# EAGLE library part RASPI_GPIO_B+ (library raspberrypi)
Only the 2x20 header connector, nothing else
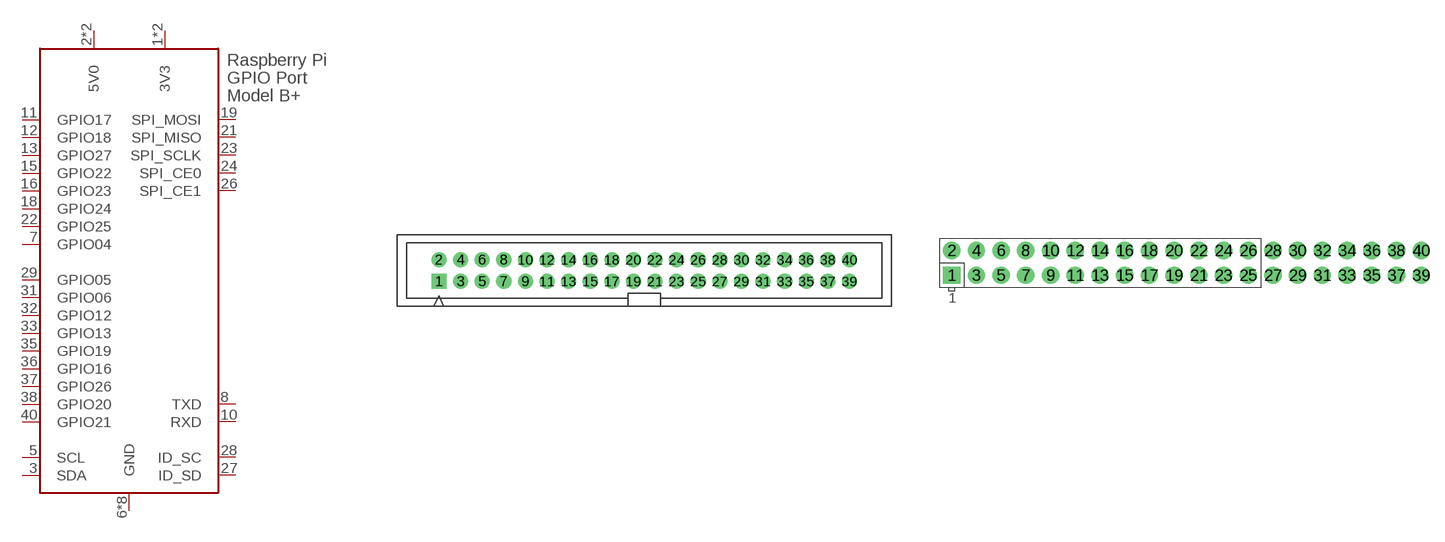
[diagram p2: symbol with the pads of RASPI_GPIO_B+_BOX; footprints RASPI_GPIO_B+_BOX, RASPI_GPIO_B+_PIN]

Designator prefix X

## RASPI_GPIO_B+_BOX  [RASPI_GPIO_B+_BOX]
1  3V3  pwr
2  5V0  pwr
3  SDA
4  5V0  pwr
5  SCL
6  GND  pwr
7  GPIO04
8  TXD
9  GND  pwr
10  RXD
11  GPIO17
12  GPIO18
13  GPIO27
14  GND  pwr
15  GPIO22
16  GPIO23
17  3V3  pwr
18  GPIO24
19  SPI_MOSI
20  GND  pwr
21  SPI_MISO
22  GPIO25
23  SPI_SCLK
24  SPI_CE0
25  GND  pwr
26  SPI_CE1
27  ID_SD  nc
28  ID_SC  nc
29  GPIO05  nc
30  GND  pwr
31  GPIO06  nc
32  GPIO12  nc
33  GPIO13  nc
34  GND  pwr
35  GPIO19  nc
36  GPIO16  nc
37  GPIO26  nc
38  GPIO20  nc
39  GND  pwr
40  GPIO21  nc

## RASPI_GPIO_B+_PIN  [RASPI_GPIO_B+_PIN]
Pads as for RASPI_GPIO_B+_BOX

## Footprint RASPI_GPIO_B+_BOX (pad centres in mm)
40-pin box header for Raspberry Pi GPIO model B+ for use with flat ribbon cables
drill 1 pad 1.778 square: 1 -24.13,-1.27
drill 1 pad 1.778: 2 -24.13,1.27; 3 -21.59,-1.27; 4 -21.59,1.27; 5 -19.05,-1.27; 6 -19.05,1.27; 7 -16.51,-1.27; 8 -16.51,1.27; 9 -13.97,-1.27; 10 -13.97,1.27; 11 -11.43,-1.27; 12 -11.43,1.27; 13 -8.89,-1.27; 14 -8.89,1.27; 15 -6.35,-1.27; 16 -6.35,1.27; 17 -3.81,-1.27; 18 -3.81,1.27; 19 -1.27,-1.27; 20 -1.27,1.27; 21 1.27,-1.27; 22 1.27,1.27; 23 3.81,-1.27; 24 3.81,1.27; 25 6.35,-1.27; 26 6.35,1.27; 27 8.89,-1.27; 28 8.89,1.27; 29 11.43,-1.27; 30 11.43,1.27; 31 13.97,-1.27; 32 13.97,1.27; 33 16.51,-1.27; 34 16.51,1.27; 35 19.05,-1.27; 36 19.05,1.27; 37 21.59,-1.27; 38 21.59,1.27; 39 24.13,-1.27; 40 24.13,1.27

## Footprint RASPI_GPIO_B+_PIN (pad centres in mm)
40-pin connector for Raspberry Pi GPIO model B+ just the two rows of pins
drill 1 pad 1.778 square: 1 -24.13,-1.27
drill 1 pad 1.778: 2 -24.13,1.27; 3 -21.59,-1.27; 4 -21.59,1.27; 5 -19.05,-1.27; 6 -19.05,1.27; 7 -16.51,-1.27; 8 -16.51,1.27; 9 -13.97,-1.27; 10 -13.97,1.27; 11 -11.43,-1.27; 12 -11.43,1.27; 13 -8.89,-1.27; 14 -8.89,1.27; 15 -6.35,-1.27; 16 -6.35,1.27; 17 -3.81,-1.27; 18 -3.81,1.27; 19 -1.27,-1.27; 20 -1.27,1.27; 21 1.27,-1.27; 22 1.27,1.27; 23 3.81,-1.27; 24 3.81,1.27; 25 6.35,-1.27; 26 6.35,1.27; 27 8.89,-1.27; 28 8.89,1.27; 29 11.43,-1.27; 30 11.43,1.27; 31 13.97,-1.27; 32 13.97,1.27; 33 16.51,-1.27; 34 16.51,1.27; 35 19.05,-1.27; 36 19.05,1.27; 37 21.59,-1.27; 38 21.59,1.27; 39 24.13,-1.27; 40 24.13,1.27